# Altium footprint library IC.PcbLib: 51 footprints (part 4 of 4)
Each footprint in its own frame and in the unit in brackets; x right, y up, seen from the top. Pads: shape width x height; smd on the part's side, far side on the other; paste and mask are expansions set on the pad; w line width, h text height; cw(c..) or ccw(c..) is an arc to the next point about the centre after c.
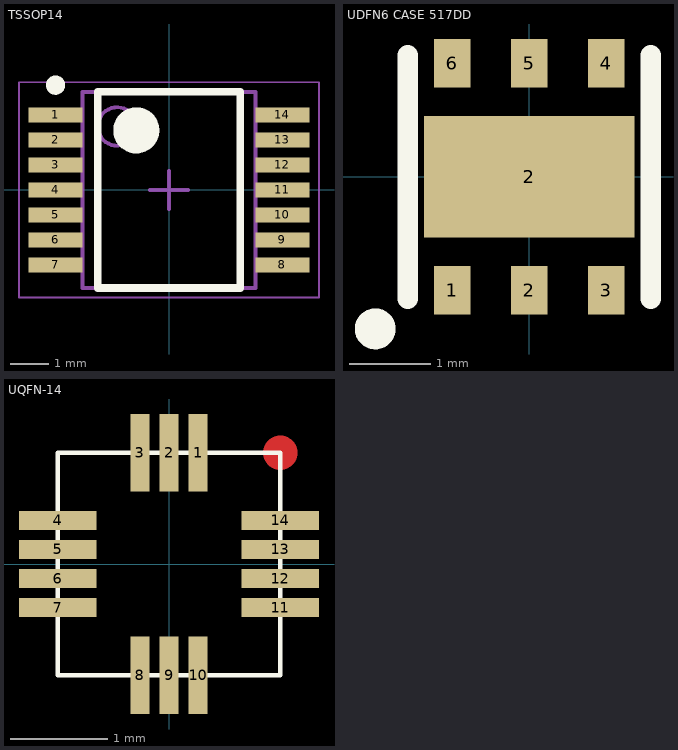
[diagram p3: the footprints below, top view; thin cyan lines are the x and y axes]

## TSSOP14 [mm] "TSOP, 14-Leads, Body 5,00x4,40mm, Pitch 0,65mm, IPC Medium Density"
height 1.2
pads (14):
  rect 1.4x0.4 smd: 1(-2.95,1.95) 2(-2.95,1.3) 3(-2.95,0.65) 4(-2.95,0) 5(-2.95,-0.65) 6(-2.95,-1.3) 7(-2.95,-1.95) 8(2.95,-1.95) 9(2.95,-1.3) 10(2.95,-0.65) 11(2.95,0) 12(2.95,0.65) 13(2.95,1.3) 14(2.95,1.95)
Top Overlay:
  circle w0.25: c-2.95,2.725 r0.125
  circle w0.6: c-0.85,1.55 r0.3
  lines w0.2: -1.85,-2.55 -1.85,2.55 1.85,2.55 1.85,-2.55 -1.85,-2.55
Mechanical 13:
  circle w0.1: c-1.35,1.65 r0.5
  lines w0.1: -2.25,-2.55 -2.25,2.55 2.25,2.55 2.25,-2.55 -2.25,-2.55
Mechanical 15:
  lines w0.05: -3.9,-2.8 -3.9,2.8 3.9,2.8 3.9,-2.8 -3.9,-2.8
  lines w0.1: -0.5,0 0.5,0 ; 0,-0.5 0,0.5
3D body "TSOP65P640X120-14N.step": height 1.2, standoff 0, extent -3.2,-2.55 3.2,2.55

## UDFN6 CASE 517DD [mm]
pads (7):
  rect 0.45x0.6 smd: 1(-0.95,-1.4) 2(0,-1.4) 3(0.95,-1.4) 4(0.95,1.4) 5(0,1.4) 6(-0.95,1.4)
  rect 2.6x1.5 smd: 2(0,0)
Top Overlay:
  circle w0.254: c-1.9,-1.875 r0.125
  lines w0.254: -1.5,-1.5 -1.5,1.5 ; 1.5,-1.5 1.5,1.5

## UQFN-14 [mm]
pads (14):
  rect 0.2x0.8 smd mask+0: 1(0.3,1.15) 2(0,1.15) 3(-0.3,1.15) 8(-0.3,-1.15) 9(0,-1.15) 10(0.3,-1.15)
  rect 0.8x0.2 smd mask+0: 4(-1.15,0.45) 5(-1.15,0.15) 6(-1.15,-0.15) 7(-1.15,-0.45) 11(1.15,-0.45) 12(1.15,-0.15) 13(1.15,0.15) 14(1.15,0.45)
Top Layer:
  circle w0.254: c1.15,1.15 r0.05
Top Overlay:
  lines w0.05: -1.15,-1.15 -1.15,1.15 1.15,1.15 1.15,-1.15 -1.15,-1.15
3D body: height 0.6, standoff 0, extent -1.15,-1.15 1.15,1.15